# Altium schematic symbol library SSSB222.SchLib: 1 symbol
Pins are listed as number, name and electrical type; pins without a type are passive.

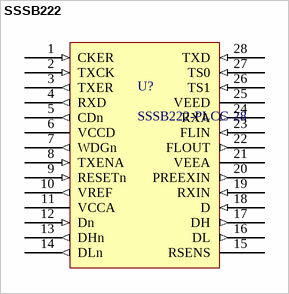
[diagram p0: symbol SSSB222]

## SSSB222
designator U?, comment SSSB222-PLCC-28
footprint PLCC28
pins: 1 CKER (in), 2 TXCK (in), 3 TXER (out), 4 RXD (out), 5 CDn (out), 6 VCCD (power), 7 WDGn (out), 8 TXENA (in), 9 RESETn (in), 10 VREF (out), 11 VCCA (power), 12 Dn (in), 13 DHn (out), 14 DLn (out), 15 RSENS (power), 16 DL (out), 17 DH (out), 18 D (in), 19 RXIN (in), 20 PREEXIN (out), 21 VEEA (power), 22 FLOUT (out), 23 FLIN (in), 24 RXA (out), 25 VEED (power), 26 TS1 (in), 27 TS0 (in), 28 TXD (in)